# EAGLE library part INA117P (library burr-brown)
High Common-Mode Voltage Difference Amplifier
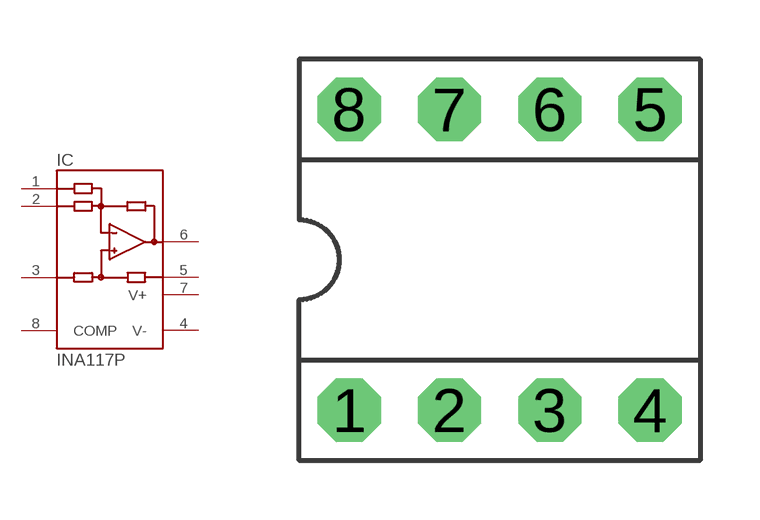
[diagram p246: symbol with the pads of DIP-08; footprint DIP-08]

Designator prefix IC

## INA117P  [DIP-08]
1  REFB  in
2  -IN  in
3  +IN  in
4  V-  pwr
5  REFA  in
6  OUT  out
7  V+  pwr
8  COMP  pas

## Footprint DIP-08 (pad centres in mm)
drill 0.813 pad 1.6 octagon: 1 -3.81,-3.81; 2 -1.27,-3.81; 3 1.27,-3.81; 4 3.81,-3.81; 5 3.81,3.81; 6 1.27,3.81; 7 -1.27,3.81; 8 -3.81,3.81